# Altium footprint library descret_pcb.PcbLib: 152 footprints (part 1 of 10)
Each footprint in its own frame and in the unit in brackets; x right, y up, seen from the top. Pads: shape width x height; smd on the part's side, far side on the other; paste and mask are expansions set on the pad; w line width, h text height; cw(c..) or ccw(c..) is an arc to the next point about the centre after c.
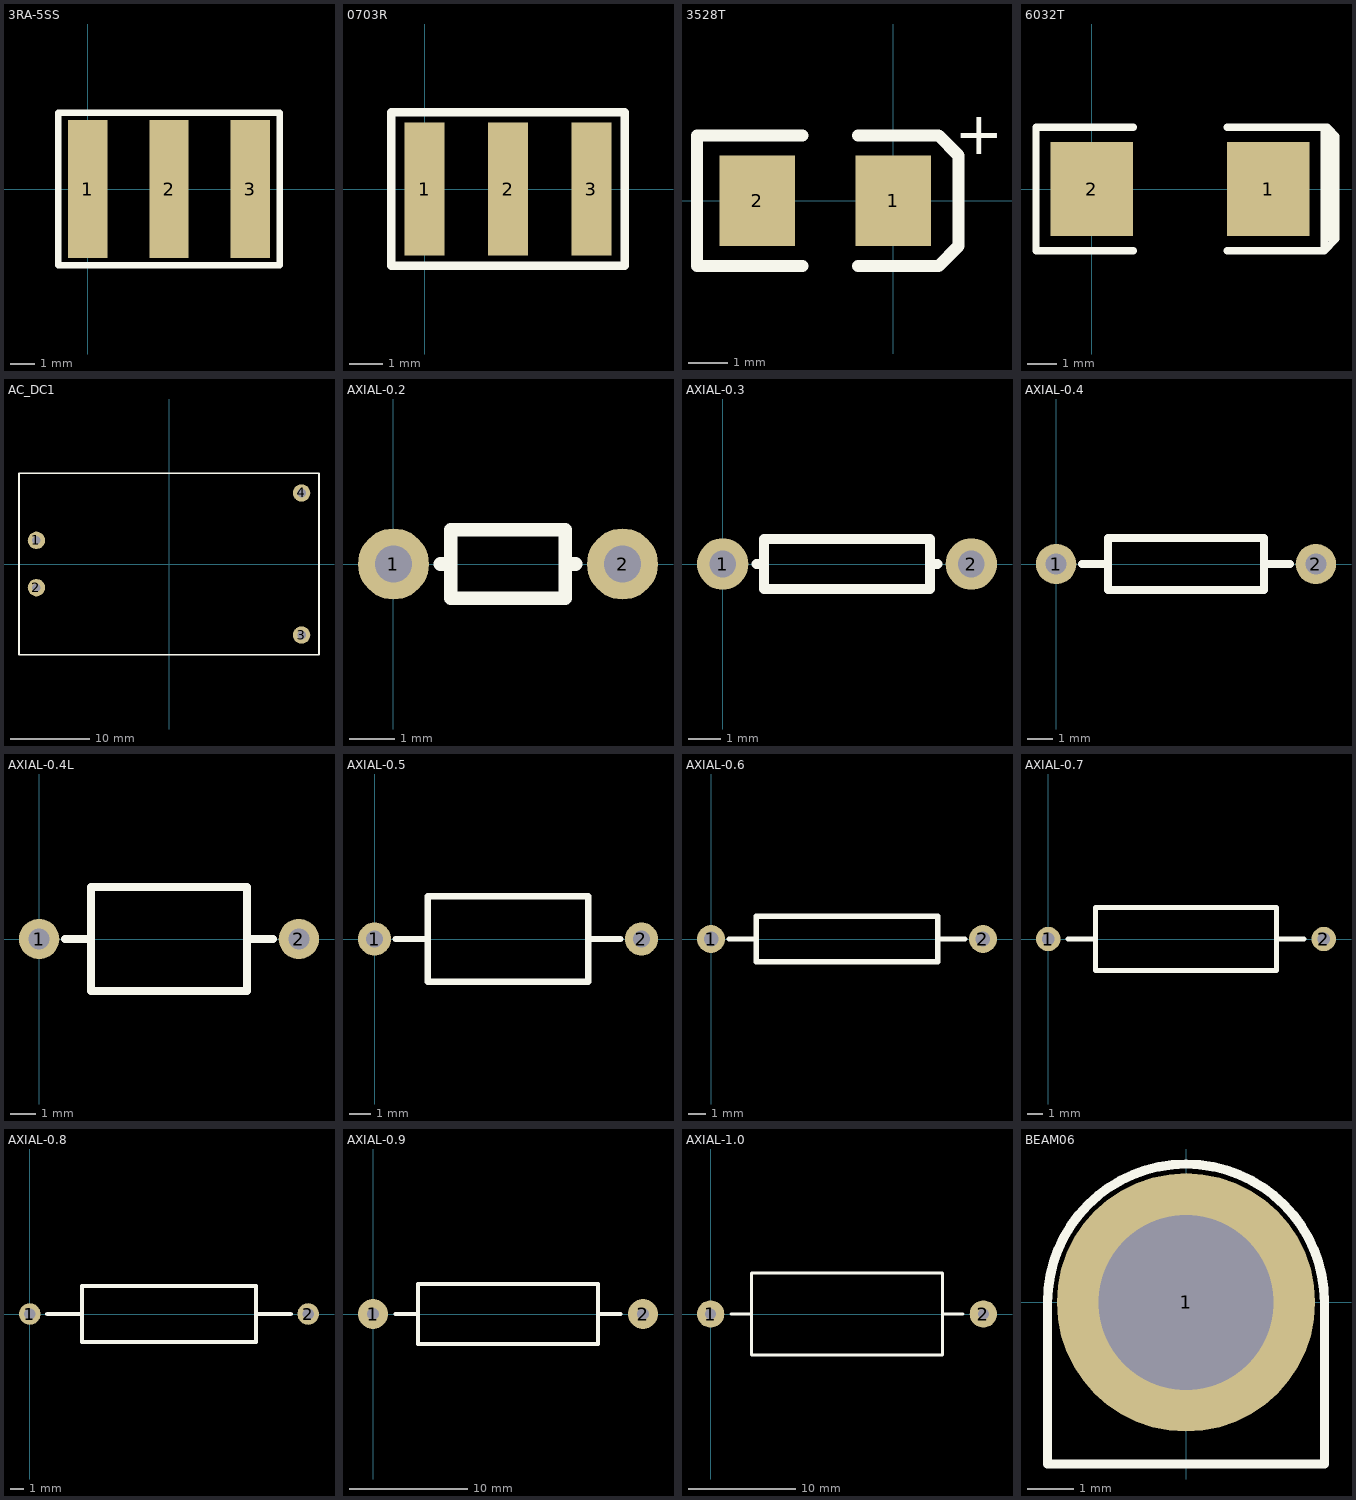
[diagram p0: the footprints below, top view; thin cyan lines are the x and y axes]

## 3RA-5SS [mm]
pads (3):
  rect 1.6x5.6 smd: 1(0,0) 2(3.3,0) 3(6.6,0)
TopOverlay:
  lines w0.254: -1.2,-3.1 -1.2,3.1 7.8,3.1 7.8,-3.1 -1.2,-3.1

## 0703R [mm]
pads (3):
  rect 1.2x4 smd: 1(0,0) 2(2.5,0) 3(5,0)
TopOverlay:
  lines w0.254: -1,-2.3 -1,2.3 6,2.3 6,-2.3 -1,-2.3

## 3528T [mil]
pads (2):
  rect 75x90 smd: 1(0,0) 2(-135,0)
TopOverlay:
  lines w12: -90,-65 -195,-65 -195,65 -90,65 ; -35,-65 45,-65 65,-45 65,45 45,65 -35,65
  text "+" at 61.18,46.31 h42

## 6032T [mm]
pads (2):
  rect 2.8x3.2 smd: 1(6,0) 2(0,0)
TopOverlay:
  lines w0.254: 1.4,-2.1 -1.9,-2.1 -1.9,2.1 1.4,2.1 ; 4.6,-2.1 7.9,-2.1 ; 4.6,2.1 7.9,2.1 ; 8.151,-1.749 8.151,1.949 ; 7.9,-2.1 7.9,2.1 ; 7.9,-2.1 8.3,-1.7 8.3,1.8 8,2.1 7.9,2.1

## AC_DC1 [mm]
pads (4):
  round 2.2 hole 1.1: 1(-16.8,3) 2(-16.8,-3) 3(16.8,-9) 4(16.8,9)
TopOverlay:
  lines w0.2: -19,-11.5 19,-11.5 19,11.5 -19,11.5 -19,-11.5

## AXIAL-0.2 [mil]
pads (2):
  round 62 hole 32: 1(0,0) 2(200,0)
TopOverlay:
  lines w12: 41,0 50,0 ; 159,0 150,0 ; 150,0 150,30 50,30 50,-30 150,-30 150,0

## AXIAL-0.3 [mil]
pads (2):
  round 62 hole 32: 1(0,0) 2(300,0)
TopOverlay:
  lines w12: 41,0 50,0 ; 259,0 250,0 ; 250,0 250,30 50,30 50,-30 250,-30 250,0

## AXIAL-0.4 [mil]
pads (2):
  round 62 hole 32: 1(0,0) 2(400,0)
TopOverlay:
  lines w12: 40,0 80,0 ; 320,0 360,0 ; 80,-40 80,40 320,40 320,-40 80,-40

## AXIAL-0.4L [mil]
pads (2):
  round 62 hole 32: 1(0,0) 2(400,0)
TopOverlay:
  lines w12: 40,0 80,0 ; 320,0 360,0 ; 80,-80 320,-80 320,80 80,80 80,-80

## AXIAL-0.5 [mil]
pads (2):
  round 62 hole 32: 1(0,0) 2(500,0)
TopOverlay:
  lines w12: 40,0 100,0 ; 400,0 460,0 ; 100,-80 400,-80 400,80 100,80 100,-80

## AXIAL-0.6 [mil]
pads (2):
  round 62 hole 32: 1(0,0) 2(600,0)
TopOverlay:
  lines w12: 40,0 100,0 ; 500,0 560,0 ; 100,-50 100,50 500,50 500,-50 100,-50

## AXIAL-0.7 [mil]
pads (2):
  round 62 hole 32: 1(0,0) 2(700,0)
TopOverlay:
  lines w12: 50,0 120,0 ; 580,0 650,0 ; 120,-80 120,80 580,80 580,-80 120,-80

## AXIAL-0.8 [mil]
pads (2):
  round 62 hole 32: 1(0,0) 2(800,0)
TopOverlay:
  lines w12: 50,0 150,0 ; 650,0 750,0 ; 150,-80 150,80 650,80 650,-80 150,-80

## AXIAL-0.9 [mil]
pads (2):
  round 100 hole 40: 1(0,0) 2(900,0)
TopOverlay:
  lines w12: 75,0 150,0 ; 750,0 825,0 ; 150,-100 750,-100 750,100 150,100 150,-100

## AXIAL-1.0 [mil]
pads (2):
  round 100 hole 40: 1(0,0) 2(1000,0)
TopOverlay:
  lines w12: 75,0 150,0 ; 850,0 925,0 ; 150,-150 150,150 850,150 850,-150 150,-150

## BEAM06 [mm] "铜接线柱"
height 8
pads (1):
  round 5.6 hole 3.8: 1(0,0)
TopOverlay:
  lines w0.203: -3,-3.5 3,-3.5 3,0 ccw(c0,0) -3,0 -3,-3.5